# EAGLE library part SI1023X (library si1023x)
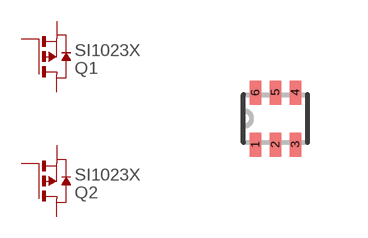
[diagram p0: symbol with the pads of SOT-563; footprint SOT-563]

Designator prefix Q; gates 1=MOSFET-P-CH 2=MOSFET-P-CH

## SI1023X  [SOT-563]
1  1:S  pas
2  1:G  pas
3  2:D  pas
4  2:S  pas
5  2:G  pas
6  1:D  pas

## Footprint SOT-563 (pad centres in mm)
smd 0.3 x 0.6: 1 -0.5,-0.65; 2 0,-0.65; 3 0.5,-0.65; 4 0.5,0.65; 5 0,0.65; 6 -0.5,0.65